# Altium footprint library Terminal Block.PcbLib: 24 footprints (part 2 of 2)
Each footprint in its own frame and in the unit in brackets; x right, y up, seen from the top. Pads: shape width x height; smd on the part's side, far side on the other; paste and mask are expansions set on the pad; w line width, h text height; cw(c..) or ccw(c..) is an arc to the next point about the centre after c.
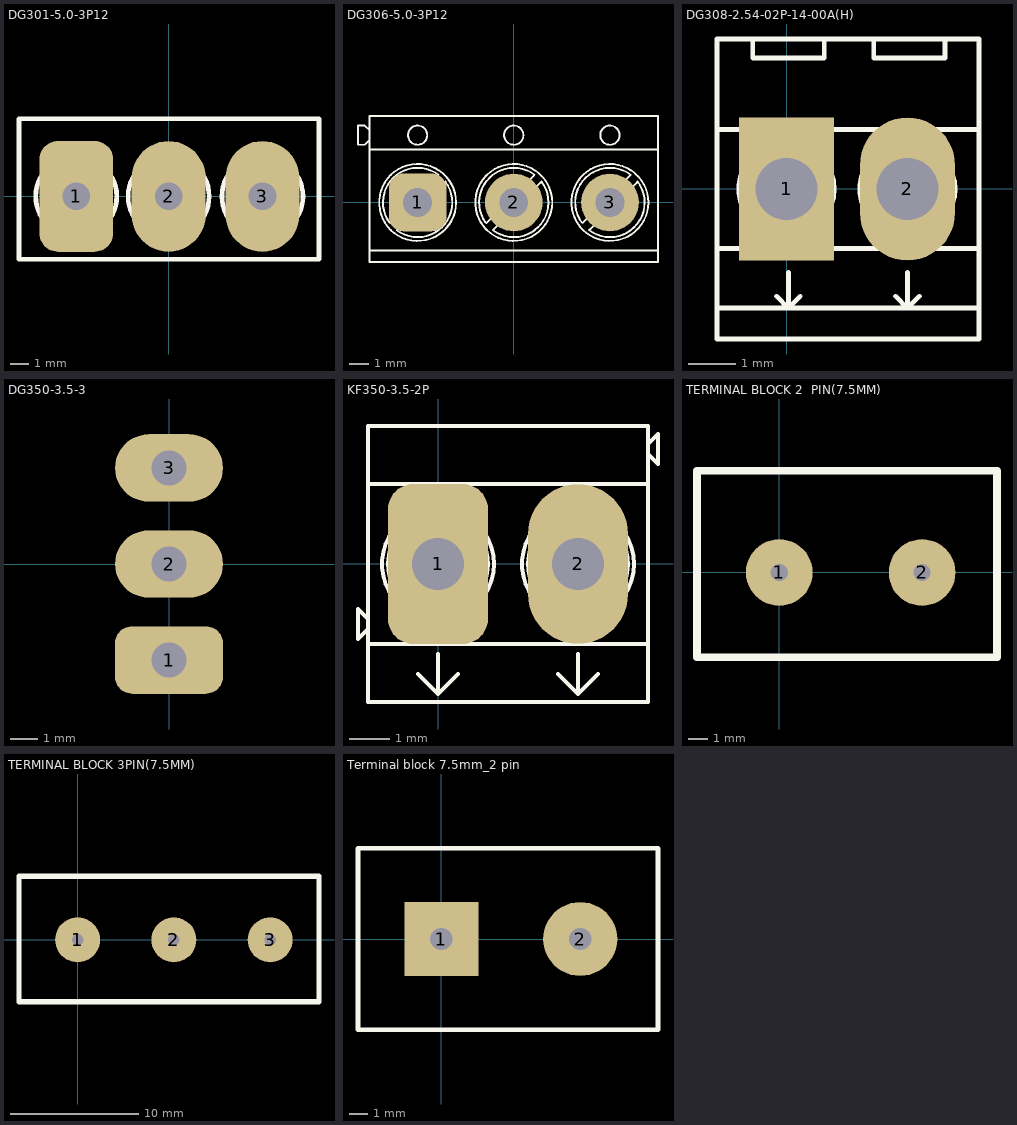
[diagram p1: the footprints below, top view; thin cyan lines are the x and y axes]

## DG301-5.0-3P12 [mm] "Terminal Block 2 x 5 mm Pitch"
height 10
pads (3):
  rrect50% 4x6 hole 1.5: 1(-5,0)
  oval 4x6 hole 1.5: 2(0,0) 3(5.08,0)
Top Overlay:
  circle w0.254: c-5,0 r2.193
  circle w0.254: c0,0 r2.193
  circle w0.254: c5.08,0 r2.193
  lines w0.254: -8.1,-3.4 -8.1,4.2 8.14,4.2 8.14,-3.4 -8.1,-3.4 ; -6,-0.8 -5.5,-1.3 -4,0.7 -4.5,1.2 -6,-0.8 ; -1,-0.8 -0.5,-1.3 1,0.7 0.5,1.2 -1,-0.8 ; 4.08,-0.8 5.58,1.2 6.08,0.7 4.58,-1.3 4.08,-0.8

## DG306-5.0-3P12 [mm]
pads (3):
  rrect50% 3x3 hole 1.5: 1(-5,0)
  round 3 hole 1.5: 2(0,0) 3(5,0)
Top Overlay:
  circle w0.1: c-5,0 r2
  circle w0.1: c0,0 r2
  circle w0.1: c5,0 r2
  circle w0.1: c5,3.5 r0.5
  circle w0.1: c0,3.5 r0.5
  circle w0.1: c-5,3.5 r0.5
  lines w0.1: -7.5,-2.5 7.5,-2.5 ; -7.5,2.75 7.5,2.75 ; -7.5,3.25 -7.75,3 -8.1,3 -8.1,4 -7.75,4 -7.5,3.75 ; -6.467,-1.048 cw(c-5,0) -3.918,1.442 ; -6.414,-1.061 -3.939,1.414 ; -6.082,-1.442 ccw(c-5,0) -3.558,1.082 ; -6.061,-1.414 -3.586,1.061 ; -1.467,-1.048 cw(c0,0) 1.082,1.442 ; -1.414,-1.061 1.061,1.414 ; -1.082,-1.442 ccw(c0,0) 1.442,1.082 ; -1.061,-1.414 1.414,1.061 ; 3.533,-1.048 cw(c5,0) 6.082,1.442 ; 3.586,-1.061 6.061,1.414 ; 3.918,-1.442 ccw(c5,0) 6.442,1.082 ; 3.939,-1.414 6.414,1.061 ; -7.5,-3.1 -7.5,4.5 7.5,4.5 7.5,-3.1 -7.5,-3.1
3D body "User Library-DG301-5_0-3P12.STEP": height 10, standoff -4.16, extent -8.1,-3.4 7.5,4.2

## DG308-2.54-02P-14-00A(H) [mm] "http://files.клеммник.рф/pdf/dg308-2.54.pdf"
height 8.5
pads (2):
  rect 2x3 hole 1.3: 1(0,0)
  oval 2x3 hole 1.3: 2(2.54,0)
Top Overlay:
  circle w0.1: c2.54,0 r1
  circle w0.1: c0,0 r1
  lines w0.1: -1.46,-2.5 4.04,-2.5 ; -1.46,-1.25 4.04,-1.25 ; -1.46,1.25 4.04,1.25 ; -0.71,3.15 -0.71,2.75 0.79,2.75 0.79,3.15 ; -0.21,-2.25 0.04,-2.5 ; 0.04,-1.75 0.04,-2.5 ; 0.29,-2.25 0.04,-2.5 ; 1.83,3.15 1.83,2.75 3.33,2.75 3.33,3.15 ; 2.29,-2.25 2.54,-2.5 ; 2.54,-2.25 2.54,-2.5 ; 2.54,-1.75 2.54,-2.5 ; 2.79,-2.25 2.54,-2.5 ; -1.46,-3.15 -1.46,3.15 4.04,3.15 4.04,-3.15 -1.46,-3.15 ; -0.707,-0.354 cw(c0,0) 0.354,0.707 -0.707,-0.354 ; -0.354,-0.707 ccw(c0,0) 0.707,0.354 -0.354,-0.707 ; 1.833,-0.354 cw(c2.54,0) 2.894,0.707 1.833,-0.354 ; 2.186,-0.707 ccw(c2.54,0) 3.247,0.354 2.186,-0.707

## DG350-3.5-3 [mm]
pads (3):
  rrect50% 4x2.5 hole 1.3: 1(0,-3.556)
  oval 4x2.5 hole 1.3: 2(0,0) 3(0,3.556)
3D body "User Library-DG350-3_5-3.step": height 8.4, standoff -3.5, extent -2.9,-5.75 2.9,5.75

## KF350-3.5-2P [mm] "http://ru.aliexpress.com/item/100PCS-LOT-KF350-3-5-2P-KF350-2Pin-3-5mm-Straight-Pin-PCB-Screw-Terminal-Block/1508459822.html?promotionVersion=1"
height 8.8
pads (2):
  rrect50% 2.5x4 hole 1.3: 1(0,0)
  oval 2.5x4 hole 1.3: 2(3.5,0)
Top Overlay:
  circle w0.1: c0,0 r1.4
  circle w0.1: c3.5,0 r1.4
  lines w0.1: -1.75,-2 5.25,-2 ; -1.75,-1.375 -2,-1.125 -2,-1.875 -1.75,-1.625 ; -1.75,2 5.25,2 ; -1.043,-0.69 0.69,1.043 ; -1.04,-0.693 cw(c0,0) 0.693,1.04 ; -0.693,-1.04 ccw(c0,0) 1.04,0.693 ; -0.69,-1.043 1.043,0.69 ; -0.5,-2.75 0,-3.25 ; 0,-2.25 0,-3.25 ; 0.5,-2.75 0,-3.25 ; 2.457,-0.69 4.19,1.043 ; 2.46,-0.693 cw(c3.5,0) 4.193,1.04 ; 2.807,-1.04 ccw(c3.5,0) 4.54,0.693 ; 2.81,-1.043 4.543,0.69 ; 3,-2.75 3.5,-3.25 ; 3.5,-2.25 3.5,-3.25 ; 4,-2.75 3.5,-3.25 ; 5.25,2.75 5.5,2.5 5.5,3.25 5.25,3 ; -1.75,-1.625 -1.75,-1.625 ; 0,-3.25 0,-3.25 ; 3.5,-3.25 3.5,-3.25 ; 5.25,3 5.25,3 ; -1.75,-3.45 -1.75,3.45 5.25,3.45 5.25,-3.45 -1.75,-3.45

## TERMINAL BLOCK 2  PIN(7.5MM) [mm]
pads (2):
  round 3.5 hole 0.9: 1(0,0) 2(7.5,0)
Top Overlay:
  lines w0.4: -4.318,-4.445 11.43,-4.445 11.43,5.334 -4.318,5.334 -4.318,-4.445
3D body "50330.stp": height 13.8, standoff -3.5, extent -4.315,-4.466 11.427,5.334

## TERMINAL BLOCK 3PIN(7.5MM) [mm]
pads (3):
  round 3.5 hole 0.9: 1(0,0) 2(7.5,0) 3(15,0)
Top Overlay:
  lines w0.4: -4.565,-4.826 -4.565,4.953 18.803,4.953 18.803,-4.826 -4.565,-4.826
3D body "37757.stp": height 13.8, standoff -3.5, extent -4.501,-4.847 18.739,4.953

## Terminal block 7.5mm_2 pin [mm]
pads (2):
  rect 4x4 hole 1.2: 1(0,0)
  round 4 hole 1.2: 2(7.5,0)
Top Overlay:
  lines w0.254: -4.5,-4.9 -4.5,4.9 11.7,4.9 11.7,-4.9 -4.5,-4.9
3D body "17686.stp": height 14.05, standoff -3.55, extent -3.8,-4.6 11.2,4.4